# EAGLE library part LED1642GW (library greg-IC)
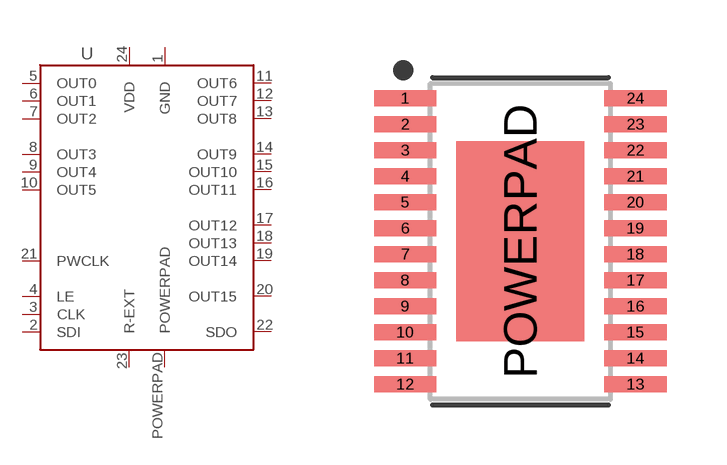
[diagram p14: symbol with the pads of SOP65P640X120-24-POWERPAD; footprint SOP65P640X120-24-POWERPAD]

Designator prefix -

## LED1642GWXTTR  [SOP65P640X120-24-POWERPAD]
1  GND  pwr
2  SDI  in
3  CLK  in
4  LE  in
5  OUT0
6  OUT1
7  OUT2
8  OUT3
9  OUT4
10  OUT5
11  OUT6
12  OUT7
13  OUT8
14  OUT9
15  OUT10
16  OUT11
17  OUT12
18  OUT13
19  OUT14
20  OUT15
21  PWCLK  in
22  SDO  out
23  R-EXT  pas
24  VDD  pwr
POWERPAD  POWERPAD

## Footprint SOP65P640X120-24-POWERPAD (pad centres in mm)
24-SOP, 0.65 mm pitch, 6.40 mm span, 7.80 X 4.40 X 1.20 mm body 24-pin SOP package with 0.65 mm pitch, 6.40 mm span with body size 7.80 X 4.40 X 1.20 mm
smd 1.559 x 0.407: 1 -2.878,3.575; 2 -2.878,2.925; 3 -2.878,2.275; 4 -2.878,1.625; 5 -2.878,0.975; 6 -2.878,0.325; 7 -2.878,-0.325; 8 -2.878,-0.975; 9 -2.878,-1.625; 10 -2.878,-2.275; 11 -2.878,-2.925; 12 -2.878,-3.575; 13 2.878,-3.575; 14 2.878,-2.925; 15 2.878,-2.275; 16 2.878,-1.625; 17 2.878,-0.975; 18 2.878,-0.325; 19 2.878,0.325; 20 2.878,0.975; 21 2.878,1.625; 22 2.878,2.275; 23 2.878,2.925; 24 2.878,3.575
smd 3.2 x 5: POWERPAD 0,0